# Altium footprint library Motorola Footprints.PcbLib: 408 footprints (part 19 of 26)
Each footprint in its own frame and in the unit in brackets; x right, y up, seen from the top. Pads: shape width x height; smd on the part's side, far side on the other; paste and mask are expansions set on the pad; w line width, h text height; cw(c..) or ccw(c..) is an arc to the next point about the centre after c.
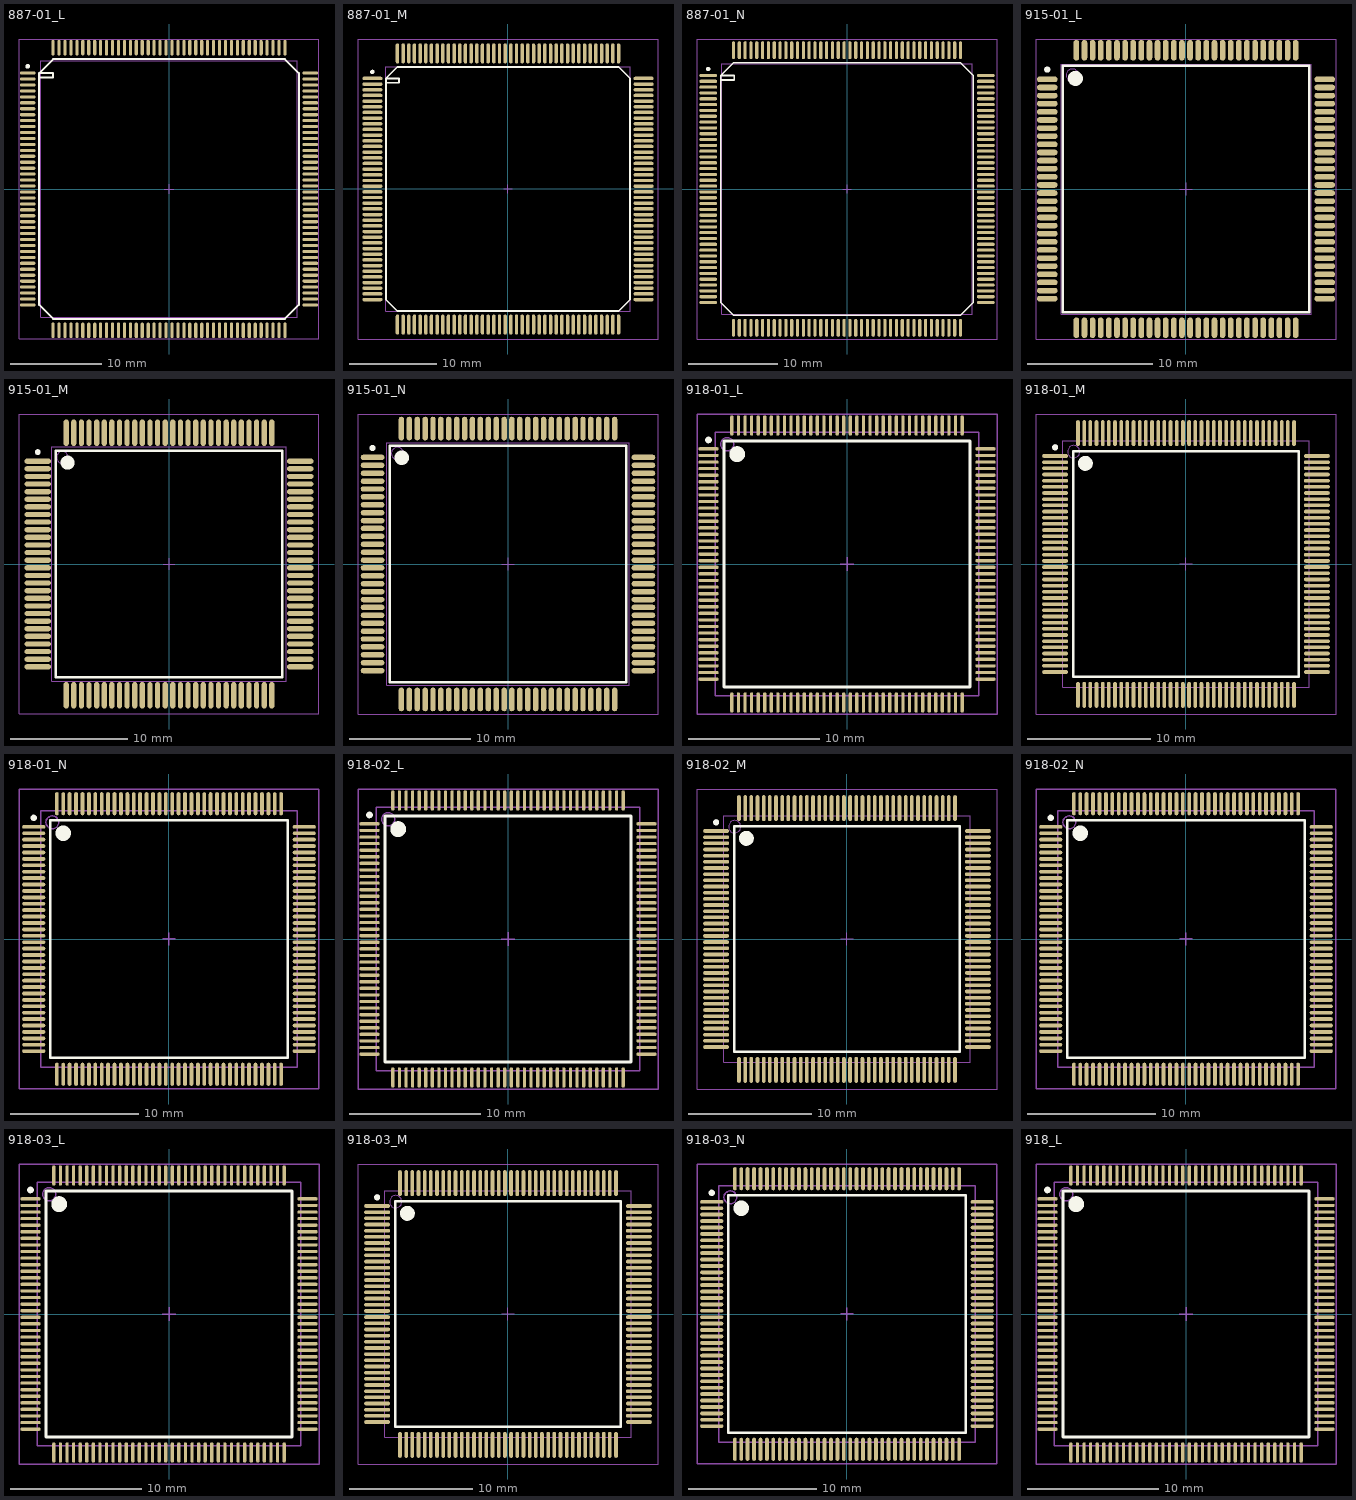
[diagram p18: the footprints below, top view; thin cyan lines are the x and y axes]

## 887-01_L [mm] "160-Pin Ceramic Quad Flat Pack with Molded Carrier Ring 0.65 mm Pitch, IPC High Density"
height 3.4
pads (160):
  oval 1.7x0.35 smd: 1(-15.45,12.675) 2(-15.45,12.025) 3(-15.45,11.375) 4(-15.45,10.725) 5(-15.45,10.075) 6(-15.45,9.425) 7(-15.45,8.775) 8(-15.45,8.125) 9(-15.45,7.475) 10(-15.45,6.825) 11(-15.45,6.175) 12(-15.45,5.525) 13(-15.45,4.875) 14(-15.45,4.225) 15(-15.45,3.575) 16(-15.45,2.925) 17(-15.45,2.275) 18(-15.45,1.625) 19(-15.45,0.975) 20(-15.45,0.325) 21(-15.45,-0.325) 22(-15.45,-0.975) 23(-15.45,-1.625) 24(-15.45,-2.275) 25(-15.45,-2.925) 26(-15.45,-3.575) 27(-15.45,-4.225) 28(-15.45,-4.875) 29(-15.45,-5.525) 30(-15.45,-6.175) 31(-15.45,-6.825) 32(-15.45,-7.475) 33(-15.45,-8.125) 34(-15.45,-8.775) 35(-15.45,-9.425) 36(-15.45,-10.075) 37(-15.45,-10.725) 38(-15.45,-11.375) 39(-15.45,-12.025) 40(-15.45,-12.675) 81(15.45,-12.675) 82(15.45,-12.025) 83(15.45,-11.375) 84(15.45,-10.725) 85(15.45,-10.075) 86(15.45,-9.425) 87(15.45,-8.775) 88(15.45,-8.125) 89(15.45,-7.475) 90(15.45,-6.825) 91(15.45,-6.175) 92(15.45,-5.525) 93(15.45,-4.875) 94(15.45,-4.225) 95(15.45,-3.575) 96(15.45,-2.925) 97(15.45,-2.275) 98(15.45,-1.625) 99(15.45,-0.975) 100(15.45,-0.325) 101(15.45,0.325) 102(15.45,0.975) 103(15.45,1.625) 104(15.45,2.275) 105(15.45,2.925) 106(15.45,3.575) 107(15.45,4.225) 108(15.45,4.875) 109(15.45,5.525) 110(15.45,6.175) 111(15.45,6.825) 112(15.45,7.475) 113(15.45,8.125) 114(15.45,8.775) 115(15.45,9.425) 116(15.45,10.075) 117(15.45,10.725) 118(15.45,11.375) 119(15.45,12.025) 120(15.45,12.675)
  oval 0.35x1.7 smd: 41(-12.675,-15.45) 42(-12.025,-15.45) 43(-11.375,-15.45) 44(-10.725,-15.45) 45(-10.075,-15.45) 46(-9.425,-15.45) 47(-8.775,-15.45) 48(-8.125,-15.45) 49(-7.475,-15.45) 50(-6.825,-15.45) 51(-6.175,-15.45) 52(-5.525,-15.45) 53(-4.875,-15.45) 54(-4.225,-15.45) 55(-3.575,-15.45) 56(-2.925,-15.45) 57(-2.275,-15.45) 58(-1.625,-15.45) 59(-0.975,-15.45) 60(-0.325,-15.45) 61(0.325,-15.45) 62(0.975,-15.45) 63(1.625,-15.45) 64(2.275,-15.45) 65(2.925,-15.45) 66(3.575,-15.45) 67(4.225,-15.45) 68(4.875,-15.45) 69(5.525,-15.45) 70(6.175,-15.45) 71(6.825,-15.45) 72(7.475,-15.45) 73(8.125,-15.45) 74(8.775,-15.45) 75(9.425,-15.45) 76(10.075,-15.45) 77(10.725,-15.45) 78(11.375,-15.45) 79(12.025,-15.45) 80(12.675,-15.45) 121(12.675,15.45) 122(12.025,15.45) 123(11.375,15.45) 124(10.725,15.45) 125(10.075,15.45) 126(9.425,15.45) 127(8.775,15.45) 128(8.125,15.45) 129(7.475,15.45) 130(6.825,15.45) 131(6.175,15.45) 132(5.525,15.45) 133(4.875,15.45) 134(4.225,15.45) 135(3.575,15.45) 136(2.925,15.45) 137(2.275,15.45) 138(1.625,15.45) 139(0.975,15.45) 140(0.325,15.45) 141(-0.325,15.45) 142(-0.975,15.45) 143(-1.625,15.45) 144(-2.275,15.45) 145(-2.925,15.45) 146(-3.575,15.45) 147(-4.225,15.45) 148(-4.875,15.45) 149(-5.525,15.45) 150(-6.175,15.45) 151(-6.825,15.45) 152(-7.475,15.45) 153(-8.125,15.45) 154(-8.775,15.45) 155(-9.425,15.45) 156(-10.075,15.45) 157(-10.725,15.45) 158(-11.375,15.45) 159(-12.025,15.45) 160(-12.675,15.45)
Top Overlay:
  circle w0.25: c-15.45,13.4 r0.125
  lines w0.2: -14.2,12.175 -12.7,12.175 -12.7,12.675 -14.2,12.675 ; -14.2,12.675 -14.2,-12.675 -12.675,-14.2 12.675,-14.2 14.2,-12.675 14.2,12.675 12.675,14.2 -12.675,14.2 -14.2,12.675
Mechanical 13:
  lines w0.1: -14,-14 -14,14 14,14 14,-14 -14,-14
Mechanical 15:
  lines w0.1: -0.5,0 0.5,0 ; 0,-0.5 0,0.5 ; -16.4,-16.4 -16.4,16.4 16.4,16.4 16.4,-16.4 -16.4,-16.4
3D body: height 3.4, standoff 0, extent -14,-14 14,14

## 887-01_M [mm] "160-Pin Ceramic Quad Flat Pack with Molded Carrier Ring 0.65 mm Pitch, IPC Low Density"
height 3.4
pads (160):
  oval 2.3x0.4 smd: 1(-15.55,12.675) 2(-15.55,12.025) 3(-15.55,11.375) 4(-15.55,10.725) 5(-15.55,10.075) 6(-15.55,9.425) 7(-15.55,8.775) 8(-15.55,8.125) 9(-15.55,7.475) 10(-15.55,6.825) 11(-15.55,6.175) 12(-15.55,5.525) 13(-15.55,4.875) 14(-15.55,4.225) 15(-15.55,3.575) 16(-15.55,2.925) 17(-15.55,2.275) 18(-15.55,1.625) 19(-15.55,0.975) 20(-15.55,0.325) 21(-15.55,-0.325) 22(-15.55,-0.975) 23(-15.55,-1.625) 24(-15.55,-2.275) 25(-15.55,-2.925) 26(-15.55,-3.575) 27(-15.55,-4.225) 28(-15.55,-4.875) 29(-15.55,-5.525) 30(-15.55,-6.175) 31(-15.55,-6.825) 32(-15.55,-7.475) 33(-15.55,-8.125) 34(-15.55,-8.775) 35(-15.55,-9.425) 36(-15.55,-10.075) 37(-15.55,-10.725) 38(-15.55,-11.375) 39(-15.55,-12.025) 40(-15.55,-12.675) 81(15.55,-12.675) 82(15.55,-12.025) 83(15.55,-11.375) 84(15.55,-10.725) 85(15.55,-10.075) 86(15.55,-9.425) 87(15.55,-8.775) 88(15.55,-8.125) 89(15.55,-7.475) 90(15.55,-6.825) 91(15.55,-6.175) 92(15.55,-5.525) 93(15.55,-4.875) 94(15.55,-4.225) 95(15.55,-3.575) 96(15.55,-2.925) 97(15.55,-2.275) 98(15.55,-1.625) 99(15.55,-0.975) 100(15.55,-0.325) 101(15.55,0.325) 102(15.55,0.975) 103(15.55,1.625) 104(15.55,2.275) 105(15.55,2.925) 106(15.55,3.575) 107(15.55,4.225) 108(15.55,4.875) 109(15.55,5.525) 110(15.55,6.175) 111(15.55,6.825) 112(15.55,7.475) 113(15.55,8.125) 114(15.55,8.775) 115(15.55,9.425) 116(15.55,10.075) 117(15.55,10.725) 118(15.55,11.375) 119(15.55,12.025) 120(15.55,12.675)
  oval 0.4x2.3 smd: 41(-12.675,-15.55) 42(-12.025,-15.55) 43(-11.375,-15.55) 44(-10.725,-15.55) 45(-10.075,-15.55) 46(-9.425,-15.55) 47(-8.775,-15.55) 48(-8.125,-15.55) 49(-7.475,-15.55) 50(-6.825,-15.55) 51(-6.175,-15.55) 52(-5.525,-15.55) 53(-4.875,-15.55) 54(-4.225,-15.55) 55(-3.575,-15.55) 56(-2.925,-15.55) 57(-2.275,-15.55) 58(-1.625,-15.55) 59(-0.975,-15.55) 60(-0.325,-15.55) 61(0.325,-15.55) 62(0.975,-15.55) 63(1.625,-15.55) 64(2.275,-15.55) 65(2.925,-15.55) 66(3.575,-15.55) 67(4.225,-15.55) 68(4.875,-15.55) 69(5.525,-15.55) 70(6.175,-15.55) 71(6.825,-15.55) 72(7.475,-15.55) 73(8.125,-15.55) 74(8.775,-15.55) 75(9.425,-15.55) 76(10.075,-15.55) 77(10.725,-15.55) 78(11.375,-15.55) 79(12.025,-15.55) 80(12.675,-15.55) 121(12.675,15.55) 122(12.025,15.55) 123(11.375,15.55) 124(10.725,15.55) 125(10.075,15.55) 126(9.425,15.55) 127(8.775,15.55) 128(8.125,15.55) 129(7.475,15.55) 130(6.825,15.55) 131(6.175,15.55) 132(5.525,15.55) 133(4.875,15.55) 134(4.225,15.55) 135(3.575,15.55) 136(2.925,15.55) 137(2.275,15.55) 138(1.625,15.55) 139(0.975,15.55) 140(0.325,15.55) 141(-0.325,15.55) 142(-0.975,15.55) 143(-1.625,15.55) 144(-2.275,15.55) 145(-2.925,15.55) 146(-3.575,15.55) 147(-4.225,15.55) 148(-4.875,15.55) 149(-5.525,15.55) 150(-6.175,15.55) 151(-6.825,15.55) 152(-7.475,15.55) 153(-8.125,15.55) 154(-8.775,15.55) 155(-9.425,15.55) 156(-10.075,15.55) 157(-10.725,15.55) 158(-11.375,15.55) 159(-12.025,15.55) 160(-12.675,15.55)
Top Overlay:
  circle w0.25: c-15.55,13.425 r0.125
  lines w0.2: -14,12.175 -12.5,12.175 -12.5,12.675 -14,12.675 ; -14,12.675 -12.675,14 12.675,14 14,12.675 14,-12.675 12.675,-14 -12.675,-14 -14,-12.675 -14,12.675
Mechanical 13:
  lines w0.1: -14,-14 14,-14 14,14 -14,14 -14,-14
Mechanical 15:
  lines w0.1: -0.5,0 0.5,0 ; 0,-0.5 0,0.5 ; -17.2,-17.2 17.2,-17.2 17.2,17.2 -17.2,17.2 -17.2,-17.2
3D body: height 3.4, standoff 0, extent -14,-14 14,14

## 887-01_N [mm] "160-Pin Ceramic Quad Flat Pack with Molded Carrier Ring 0.65 mm Pitch, IPC Medium Density"
height 3.4
pads (160):
  oval 2x0.35 smd: 1(-15.5,12.675) 2(-15.5,12.025) 3(-15.5,11.375) 4(-15.5,10.725) 5(-15.5,10.075) 6(-15.5,9.425) 7(-15.5,8.775) 8(-15.5,8.125) 9(-15.5,7.475) 10(-15.5,6.825) 11(-15.5,6.175) 12(-15.5,5.525) 13(-15.5,4.875) 14(-15.5,4.225) 15(-15.5,3.575) 16(-15.5,2.925) 17(-15.5,2.275) 18(-15.5,1.625) 19(-15.5,0.975) 20(-15.5,0.325) 21(-15.5,-0.325) 22(-15.5,-0.975) 23(-15.5,-1.625) 24(-15.5,-2.275) 25(-15.5,-2.925) 26(-15.5,-3.575) 27(-15.5,-4.225) 28(-15.5,-4.875) 29(-15.5,-5.525) 30(-15.5,-6.175) 31(-15.5,-6.825) 32(-15.5,-7.475) 33(-15.5,-8.125) 34(-15.5,-8.775) 35(-15.5,-9.425) 36(-15.5,-10.075) 37(-15.5,-10.725) 38(-15.5,-11.375) 39(-15.5,-12.025) 40(-15.5,-12.675) 81(15.5,-12.675) 82(15.5,-12.025) 83(15.5,-11.375) 84(15.5,-10.725) 85(15.5,-10.075) 86(15.5,-9.425) 87(15.5,-8.775) 88(15.5,-8.125) 89(15.5,-7.475) 90(15.5,-6.825) 91(15.5,-6.175) 92(15.5,-5.525) 93(15.5,-4.875) 94(15.5,-4.225) 95(15.5,-3.575) 96(15.5,-2.925) 97(15.5,-2.275) 98(15.5,-1.625) 99(15.5,-0.975) 100(15.5,-0.325) 101(15.5,0.325) 102(15.5,0.975) 103(15.5,1.625) 104(15.5,2.275) 105(15.5,2.925) 106(15.5,3.575) 107(15.5,4.225) 108(15.5,4.875) 109(15.5,5.525) 110(15.5,6.175) 111(15.5,6.825) 112(15.5,7.475) 113(15.5,8.125) 114(15.5,8.775) 115(15.5,9.425) 116(15.5,10.075) 117(15.5,10.725) 118(15.5,11.375) 119(15.5,12.025) 120(15.5,12.675)
  oval 0.35x2 smd: 41(-12.675,-15.5) 42(-12.025,-15.5) 43(-11.375,-15.5) 44(-10.725,-15.5) 45(-10.075,-15.5) 46(-9.425,-15.5) 47(-8.775,-15.5) 48(-8.125,-15.5) 49(-7.475,-15.5) 50(-6.825,-15.5) 51(-6.175,-15.5) 52(-5.525,-15.5) 53(-4.875,-15.5) 54(-4.225,-15.5) 55(-3.575,-15.5) 56(-2.925,-15.5) 57(-2.275,-15.5) 58(-1.625,-15.5) 59(-0.975,-15.5) 60(-0.325,-15.5) 61(0.325,-15.5) 62(0.975,-15.5) 63(1.625,-15.5) 64(2.275,-15.5) 65(2.925,-15.5) 66(3.575,-15.5) 67(4.225,-15.5) 68(4.875,-15.5) 69(5.525,-15.5) 70(6.175,-15.5) 71(6.825,-15.5) 72(7.475,-15.5) 73(8.125,-15.5) 74(8.775,-15.5) 75(9.425,-15.5) 76(10.075,-15.5) 77(10.725,-15.5) 78(11.375,-15.5) 79(12.025,-15.5) 80(12.675,-15.5) 121(12.675,15.5) 122(12.025,15.5) 123(11.375,15.5) 124(10.725,15.5) 125(10.075,15.5) 126(9.425,15.5) 127(8.775,15.5) 128(8.125,15.5) 129(7.475,15.5) 130(6.825,15.5) 131(6.175,15.5) 132(5.525,15.5) 133(4.875,15.5) 134(4.225,15.5) 135(3.575,15.5) 136(2.925,15.5) 137(2.275,15.5) 138(1.625,15.5) 139(0.975,15.5) 140(0.325,15.5) 141(-0.325,15.5) 142(-0.975,15.5) 143(-1.625,15.5) 144(-2.275,15.5) 145(-2.925,15.5) 146(-3.575,15.5) 147(-4.225,15.5) 148(-4.875,15.5) 149(-5.525,15.5) 150(-6.175,15.5) 151(-6.825,15.5) 152(-7.475,15.5) 153(-8.125,15.5) 154(-8.775,15.5) 155(-9.425,15.5) 156(-10.075,15.5) 157(-10.725,15.5) 158(-11.375,15.5) 159(-12.025,15.5) 160(-12.675,15.5)
Top Overlay:
  circle w0.25: c-15.5,13.4 r0.125
  lines w0.2: -14.1,12.175 -12.6,12.175 -12.6,12.675 -14.1,12.675 ; -14.1,12.675 -12.675,14.1 12.675,14.1 14.1,12.675 14.1,-12.675 12.675,-14.1 -12.675,-14.1 -14.1,-12.675 -14.1,12.675
Mechanical 13:
  lines w0.1: -14,-14 14,-14 14,14 -14,14 -14,-14
Mechanical 15:
  lines w0.1: -0.5,0 0.5,0 ; 0,-0.5 0,0.5 ; -16.75,-16.75 16.75,-16.75 16.75,16.75 -16.75,16.75 -16.75,-16.75
3D body: height 3.4, standoff 0, extent -14,-14 14,14

## 915-01_L [mm] "112-Pin Quad Flat Pack 0.65 mm Pitch, IPC High Density"
height 3.45
pads (112):
  oval 1.65x0.45 smd: 1(-11.1,8.775) 2(-11.1,8.125) 3(-11.1,7.475) 4(-11.1,6.825) 5(-11.1,6.175) 6(-11.1,5.525) 7(-11.1,4.875) 8(-11.1,4.225) 9(-11.1,3.575) 10(-11.1,2.925) 11(-11.1,2.275) 12(-11.1,1.625) 13(-11.1,0.975) 14(-11.1,0.325) 15(-11.1,-0.325) 16(-11.1,-0.975) 17(-11.1,-1.625) 18(-11.1,-2.275) 19(-11.1,-2.925) 20(-11.1,-3.575) 21(-11.1,-4.225) 22(-11.1,-4.875) 23(-11.1,-5.525) 24(-11.1,-6.175) 25(-11.1,-6.825) 26(-11.1,-7.475) 27(-11.1,-8.125) 28(-11.1,-8.775) 57(11.1,-8.775) 58(11.1,-8.125) 59(11.1,-7.475) 60(11.1,-6.825) 61(11.1,-6.175) 62(11.1,-5.525) 63(11.1,-4.875) 64(11.1,-4.225) 65(11.1,-3.575) 66(11.1,-2.925) 67(11.1,-2.275) 68(11.1,-1.625) 69(11.1,-0.975) 70(11.1,-0.325) 71(11.1,0.325) 72(11.1,0.975) 73(11.1,1.625) 74(11.1,2.275) 75(11.1,2.925) 76(11.1,3.575) 77(11.1,4.225) 78(11.1,4.875) 79(11.1,5.525) 80(11.1,6.175) 81(11.1,6.825) 82(11.1,7.475) 83(11.1,8.125) 84(11.1,8.775)
  oval 0.45x1.65 smd: 29(-8.775,-11.1) 30(-8.125,-11.1) 31(-7.475,-11.1) 32(-6.825,-11.1) 33(-6.175,-11.1) 34(-5.525,-11.1) 35(-4.875,-11.1) 36(-4.225,-11.1) 37(-3.575,-11.1) 38(-2.925,-11.1) 39(-2.275,-11.1) 40(-1.625,-11.1) 41(-0.975,-11.1) 42(-0.325,-11.1) 43(0.325,-11.1) 44(0.975,-11.1) 45(1.625,-11.1) 46(2.275,-11.1) 47(2.925,-11.1) 48(3.575,-11.1) 49(4.225,-11.1) 50(4.875,-11.1) 51(5.525,-11.1) 52(6.175,-11.1) 53(6.825,-11.1) 54(7.475,-11.1) 55(8.125,-11.1) 56(8.775,-11.1) 85(8.775,11.1) 86(8.125,11.1) 87(7.475,11.1) 88(6.825,11.1) 89(6.175,11.1) 90(5.525,11.1) 91(4.875,11.1) 92(4.225,11.1) 93(3.575,11.1) 94(2.925,11.1) 95(2.275,11.1) 96(1.625,11.1) 97(0.975,11.1) 98(0.325,11.1) 99(-0.325,11.1) 100(-0.975,11.1) 101(-1.625,11.1) 102(-2.275,11.1) 103(-2.925,11.1) 104(-3.575,11.1) 105(-4.225,11.1) 106(-4.875,11.1) 107(-5.525,11.1) 108(-6.175,11.1) 109(-6.825,11.1) 110(-7.475,11.1) 111(-8.125,11.1) 112(-8.775,11.1)
Top Overlay:
  circle w0.25: c-11.1,9.55 r0.125
  circle w0.6: c-8.85,8.85 r0.3
  lines w0.2: -9.85,-9.85 -9.85,9.85 9.85,9.85 9.85,-9.85 -9.85,-9.85
Mechanical 13:
  circle w0.1: c-9.1,9.1 r0.5
  lines w0.1: -10,-10 -10,10 10,10 10,-10 -10,-10
Mechanical 15:
  lines w0.1: -0.5,0 0.5,0 ; 0,-0.5 0,0.5 ; -12,-12 -12,12 12,12 12,-12 -12,-12
3D body: height 3.45, standoff 0, extent -10,-10 10,10

## 915-01_M [mm] "112-Pin Quad Flat Pack 0.65 mm Pitch, IPC Low Density"
height 3.45
pads (112):
  oval 2.25x0.45 smd: 1(-11.2,8.775) 2(-11.2,8.125) 3(-11.2,7.475) 4(-11.2,6.825) 5(-11.2,6.175) 6(-11.2,5.525) 7(-11.2,4.875) 8(-11.2,4.225) 9(-11.2,3.575) 10(-11.2,2.925) 11(-11.2,2.275) 12(-11.2,1.625) 13(-11.2,0.975) 14(-11.2,0.325) 15(-11.2,-0.325) 16(-11.2,-0.975) 17(-11.2,-1.625) 18(-11.2,-2.275) 19(-11.2,-2.925) 20(-11.2,-3.575) 21(-11.2,-4.225) 22(-11.2,-4.875) 23(-11.2,-5.525) 24(-11.2,-6.175) 25(-11.2,-6.825) 26(-11.2,-7.475) 27(-11.2,-8.125) 28(-11.2,-8.775) 57(11.2,-8.775) 58(11.2,-8.125) 59(11.2,-7.475) 60(11.2,-6.825) 61(11.2,-6.175) 62(11.2,-5.525) 63(11.2,-4.875) 64(11.2,-4.225) 65(11.2,-3.575) 66(11.2,-2.925) 67(11.2,-2.275) 68(11.2,-1.625) 69(11.2,-0.975) 70(11.2,-0.325) 71(11.2,0.325) 72(11.2,0.975) 73(11.2,1.625) 74(11.2,2.275) 75(11.2,2.925) 76(11.2,3.575) 77(11.2,4.225) 78(11.2,4.875) 79(11.2,5.525) 80(11.2,6.175) 81(11.2,6.825) 82(11.2,7.475) 83(11.2,8.125) 84(11.2,8.775)
  oval 0.45x2.25 smd: 29(-8.775,-11.2) 30(-8.125,-11.2) 31(-7.475,-11.2) 32(-6.825,-11.2) 33(-6.175,-11.2) 34(-5.525,-11.2) 35(-4.875,-11.2) 36(-4.225,-11.2) 37(-3.575,-11.2) 38(-2.925,-11.2) 39(-2.275,-11.2) 40(-1.625,-11.2) 41(-0.975,-11.2) 42(-0.325,-11.2) 43(0.325,-11.2) 44(0.975,-11.2) 45(1.625,-11.2) 46(2.275,-11.2) 47(2.925,-11.2) 48(3.575,-11.2) 49(4.225,-11.2) 50(4.875,-11.2) 51(5.525,-11.2) 52(6.175,-11.2) 53(6.825,-11.2) 54(7.475,-11.2) 55(8.125,-11.2) 56(8.775,-11.2) 85(8.775,11.2) 86(8.125,11.2) 87(7.475,11.2) 88(6.825,11.2) 89(6.175,11.2) 90(5.525,11.2) 91(4.875,11.2) 92(4.225,11.2) 93(3.575,11.2) 94(2.925,11.2) 95(2.275,11.2) 96(1.625,11.2) 97(0.975,11.2) 98(0.325,11.2) 99(-0.325,11.2) 100(-0.975,11.2) 101(-1.625,11.2) 102(-2.275,11.2) 103(-2.925,11.2) 104(-3.575,11.2) 105(-4.225,11.2) 106(-4.875,11.2) 107(-5.525,11.2) 108(-6.175,11.2) 109(-6.825,11.2) 110(-7.475,11.2) 111(-8.125,11.2) 112(-8.775,11.2)
Top Overlay:
  circle w0.25: c-11.2,9.55 r0.125
  circle w0.6: c-8.65,8.65 r0.3
  lines w0.2: -9.65,-9.65 -9.65,9.65 9.65,9.65 9.65,-9.65 -9.65,-9.65
Mechanical 13:
  circle w0.1: c-9.1,9.1 r0.5
  lines w0.1: -10,-10 -10,10 10,10 10,-10 -10,-10
Mechanical 15:
  lines w0.1: -0.5,0 0.5,0 ; 0,-0.5 0,0.5 ; -12.8,-12.8 -12.8,12.8 12.8,12.8 12.8,-12.8 -12.8,-12.8
3D body: height 3.45, standoff 0, extent -10,-10 10,10

## 915-01_N [mm] "112-Pin Quad Flat Pack 0.65 mm Pitch, IPC Medium Density"
height 3.45
pads (112):
  oval 1.95x0.45 smd: 1(-11.15,8.775) 2(-11.15,8.125) 3(-11.15,7.475) 4(-11.15,6.825) 5(-11.15,6.175) 6(-11.15,5.525) 7(-11.15,4.875) 8(-11.15,4.225) 9(-11.15,3.575) 10(-11.15,2.925) 11(-11.15,2.275) 12(-11.15,1.625) 13(-11.15,0.975) 14(-11.15,0.325) 15(-11.15,-0.325) 16(-11.15,-0.975) 17(-11.15,-1.625) 18(-11.15,-2.275) 19(-11.15,-2.925) 20(-11.15,-3.575) 21(-11.15,-4.225) 22(-11.15,-4.875) 23(-11.15,-5.525) 24(-11.15,-6.175) 25(-11.15,-6.825) 26(-11.15,-7.475) 27(-11.15,-8.125) 28(-11.15,-8.775) 57(11.15,-8.775) 58(11.15,-8.125) 59(11.15,-7.475) 60(11.15,-6.825) 61(11.15,-6.175) 62(11.15,-5.525) 63(11.15,-4.875) 64(11.15,-4.225) 65(11.15,-3.575) 66(11.15,-2.925) 67(11.15,-2.275) 68(11.15,-1.625) 69(11.15,-0.975) 70(11.15,-0.325) 71(11.15,0.325) 72(11.15,0.975) 73(11.15,1.625) 74(11.15,2.275) 75(11.15,2.925) 76(11.15,3.575) 77(11.15,4.225) 78(11.15,4.875) 79(11.15,5.525) 80(11.15,6.175) 81(11.15,6.825) 82(11.15,7.475) 83(11.15,8.125) 84(11.15,8.775)
  oval 0.45x1.95 smd: 29(-8.775,-11.15) 30(-8.125,-11.15) 31(-7.475,-11.15) 32(-6.825,-11.15) 33(-6.175,-11.15) 34(-5.525,-11.15) 35(-4.875,-11.15) 36(-4.225,-11.15) 37(-3.575,-11.15) 38(-2.925,-11.15) 39(-2.275,-11.15) 40(-1.625,-11.15) 41(-0.975,-11.15) 42(-0.325,-11.15) 43(0.325,-11.15) 44(0.975,-11.15) 45(1.625,-11.15) 46(2.275,-11.15) 47(2.925,-11.15) 48(3.575,-11.15) 49(4.225,-11.15) 50(4.875,-11.15) 51(5.525,-11.15) 52(6.175,-11.15) 53(6.825,-11.15) 54(7.475,-11.15) 55(8.125,-11.15) 56(8.775,-11.15) 85(8.775,11.15) 86(8.125,11.15) 87(7.475,11.15) 88(6.825,11.15) 89(6.175,11.15) 90(5.525,11.15) 91(4.875,11.15) 92(4.225,11.15) 93(3.575,11.15) 94(2.925,11.15) 95(2.275,11.15) 96(1.625,11.15) 97(0.975,11.15) 98(0.325,11.15) 99(-0.325,11.15) 100(-0.975,11.15) 101(-1.625,11.15) 102(-2.275,11.15) 103(-2.925,11.15) 104(-3.575,11.15) 105(-4.225,11.15) 106(-4.875,11.15) 107(-5.525,11.15) 108(-6.175,11.15) 109(-6.825,11.15) 110(-7.475,11.15) 111(-8.125,11.15) 112(-8.775,11.15)
Top Overlay:
  circle w0.6: c-8.75,8.75 r0.3
  circle w0.25: c-11.15,9.55 r0.125
  lines w0.2: -9.75,-9.75 9.75,-9.75 9.75,9.75 -9.75,9.75 -9.75,-9.75
Mechanical 13:
  circle w0.1: c-9.1,9.1 r0.5
  lines w0.1: -10,-10 10,-10 10,10 -10,10 -10,-10
Mechanical 15:
  lines w0.1: -0.5,0 0.5,0 ; 0,-0.5 0,0.5 ; -12.35,-12.35 12.35,-12.35 12.35,12.35 -12.35,12.35 -12.35,-12.35
3D body: height 3.45, standoff 0, extent -10,-10 10,10

## 918-01_L [mm] "144-Pin Thin Quad Flat Pack 0.5 mm Pitch, IPC High Density"
height 1.6
pads (144):
  oval 1.55x0.25 smd: 1(-10.525,8.75) 2(-10.525,8.25) 3(-10.525,7.75) 4(-10.525,7.25) 5(-10.525,6.75) 6(-10.525,6.25) 7(-10.525,5.75) 8(-10.525,5.25) 9(-10.525,4.75) 10(-10.525,4.25) 11(-10.525,3.75) 12(-10.525,3.25) 13(-10.525,2.75) 14(-10.525,2.25) 15(-10.525,1.75) 16(-10.525,1.25) 17(-10.525,0.75) 18(-10.525,0.25) 19(-10.525,-0.25) 20(-10.525,-0.75) 21(-10.525,-1.25) 22(-10.525,-1.75) 23(-10.525,-2.25) 24(-10.525,-2.75) 25(-10.525,-3.25) 26(-10.525,-3.75) 27(-10.525,-4.25) 28(-10.525,-4.75) 29(-10.525,-5.25) 30(-10.525,-5.75) 31(-10.525,-6.25) 32(-10.525,-6.75) 33(-10.525,-7.25) 34(-10.525,-7.75) 35(-10.525,-8.25) 36(-10.525,-8.75) 73(10.525,-8.75) 74(10.525,-8.25) 75(10.525,-7.75) 76(10.525,-7.25) 77(10.525,-6.75) 78(10.525,-6.25) 79(10.525,-5.75) 80(10.525,-5.25) 81(10.525,-4.75) 82(10.525,-4.25) 83(10.525,-3.75) 84(10.525,-3.25) 85(10.525,-2.75) 86(10.525,-2.25) 87(10.525,-1.75) 88(10.525,-1.25) 89(10.525,-0.75) 90(10.525,-0.25) 91(10.525,0.25) 92(10.525,0.75) 93(10.525,1.25) 94(10.525,1.75) 95(10.525,2.25) 96(10.525,2.75) 97(10.525,3.25) 98(10.525,3.75) 99(10.525,4.25) 100(10.525,4.75) 101(10.525,5.25) 102(10.525,5.75) 103(10.525,6.25) 104(10.525,6.75) 105(10.525,7.25) 106(10.525,7.75) 107(10.525,8.25) 108(10.525,8.75)
  oval 0.25x1.55 smd: 37(-8.75,-10.525) 38(-8.25,-10.525) 39(-7.75,-10.525) 40(-7.25,-10.525) 41(-6.75,-10.525) 42(-6.25,-10.525) 43(-5.75,-10.525) 44(-5.25,-10.525) 45(-4.75,-10.525) 46(-4.25,-10.525) 47(-3.75,-10.525) 48(-3.25,-10.525) 49(-2.75,-10.525) 50(-2.25,-10.525) 51(-1.75,-10.525) 52(-1.25,-10.525) 53(-0.75,-10.525) 54(-0.25,-10.525) 55(0.25,-10.525) 56(0.75,-10.525) 57(1.25,-10.525) 58(1.75,-10.525) 59(2.25,-10.525) 60(2.75,-10.525) 61(3.25,-10.525) 62(3.75,-10.525) 63(4.25,-10.525) 64(4.75,-10.525) 65(5.25,-10.525) 66(5.75,-10.525) 67(6.25,-10.525) 68(6.75,-10.525) 69(7.25,-10.525) 70(7.75,-10.525) 71(8.25,-10.525) 72(8.75,-10.525) 109(8.75,10.525) 110(8.25,10.525) 111(7.75,10.525) 112(7.25,10.525) 113(6.75,10.525) 114(6.25,10.525) 115(5.75,10.525) 116(5.25,10.525) 117(4.75,10.525) 118(4.25,10.525) 119(3.75,10.525) 120(3.25,10.525) 121(2.75,10.525) 122(2.25,10.525) 123(1.75,10.525) 124(1.25,10.525) 125(0.75,10.525) 126(0.25,10.525) 127(-0.25,10.525) 128(-0.75,10.525) 129(-1.25,10.525) 130(-1.75,10.525) 131(-2.25,10.525) 132(-2.75,10.525) 133(-3.25,10.525) 134(-3.75,10.525) 135(-4.25,10.525) 136(-4.75,10.525) 137(-5.25,10.525) 138(-5.75,10.525) 139(-6.25,10.525) 140(-6.75,10.525) 141(-7.25,10.525) 142(-7.75,10.525) 143(-8.25,10.525) 144(-8.75,10.525)
Top Overlay:
  circle w0.6: c-8.35,8.35 r0.3
  circle w0.25: c-10.525,9.425 r0.125
  lines w0.2: -9.35,-9.35 9.35,-9.35 9.35,9.35 -9.35,9.35 -9.35,-9.35
Mechanical 13:
  circle w0.1: c-9.1,9.1 r0.5
  lines w0.1: -10,-10 10,-10 10,10 -10,10 -10,-10
Mechanical 15:
  lines w0.1: -0.5,0 0.5,0 ; 0,-0.5 0,0.5 ; -11.4,-11.4 11.4,-11.4 11.4,11.4 -11.4,11.4 -11.4,-11.4
3D body: height 1.6, standoff 0, extent -10,-10 10,10

## 918-01_M [mm] "144-Pin Thin Quad Flat Pack 0.5 mm Pitch, IPC Low Density"
height 1.6
pads (144):
  oval 2.1x0.3 smd: 1(-10.6,8.75) 2(-10.6,8.25) 3(-10.6,7.75) 4(-10.6,7.25) 5(-10.6,6.75) 6(-10.6,6.25) 7(-10.6,5.75) 8(-10.6,5.25) 9(-10.6,4.75) 10(-10.6,4.25) 11(-10.6,3.75) 12(-10.6,3.25) 13(-10.6,2.75) 14(-10.6,2.25) 15(-10.6,1.75) 16(-10.6,1.25) 17(-10.6,0.75) 18(-10.6,0.25) 19(-10.6,-0.25) 20(-10.6,-0.75) 21(-10.6,-1.25) 22(-10.6,-1.75) 23(-10.6,-2.25) 24(-10.6,-2.75) 25(-10.6,-3.25) 26(-10.6,-3.75) 27(-10.6,-4.25) 28(-10.6,-4.75) 29(-10.6,-5.25) 30(-10.6,-5.75) 31(-10.6,-6.25) 32(-10.6,-6.75) 33(-10.6,-7.25) 34(-10.6,-7.75) 35(-10.6,-8.25) 36(-10.6,-8.75) 73(10.6,-8.75) 74(10.6,-8.25) 75(10.6,-7.75) 76(10.6,-7.25) 77(10.6,-6.75) 78(10.6,-6.25) 79(10.6,-5.75) 80(10.6,-5.25) 81(10.6,-4.75) 82(10.6,-4.25) 83(10.6,-3.75) 84(10.6,-3.25) 85(10.6,-2.75) 86(10.6,-2.25) 87(10.6,-1.75) 88(10.6,-1.25) 89(10.6,-0.75) 90(10.6,-0.25) 91(10.6,0.25) 92(10.6,0.75) 93(10.6,1.25) 94(10.6,1.75) 95(10.6,2.25) 96(10.6,2.75) 97(10.6,3.25) 98(10.6,3.75) 99(10.6,4.25) 100(10.6,4.75) 101(10.6,5.25) 102(10.6,5.75) 103(10.6,6.25) 104(10.6,6.75) 105(10.6,7.25) 106(10.6,7.75) 107(10.6,8.25) 108(10.6,8.75)
  oval 0.3x2.1 smd: 37(-8.75,-10.6) 38(-8.25,-10.6) 39(-7.75,-10.6) 40(-7.25,-10.6) 41(-6.75,-10.6) 42(-6.25,-10.6) 43(-5.75,-10.6) 44(-5.25,-10.6) 45(-4.75,-10.6) 46(-4.25,-10.6) 47(-3.75,-10.6) 48(-3.25,-10.6) 49(-2.75,-10.6) 50(-2.25,-10.6) 51(-1.75,-10.6) 52(-1.25,-10.6) 53(-0.75,-10.6) 54(-0.25,-10.6) 55(0.25,-10.6) 56(0.75,-10.6) 57(1.25,-10.6) 58(1.75,-10.6) 59(2.25,-10.6) 60(2.75,-10.6) 61(3.25,-10.6) 62(3.75,-10.6) 63(4.25,-10.6) 64(4.75,-10.6) 65(5.25,-10.6) 66(5.75,-10.6) 67(6.25,-10.6) 68(6.75,-10.6) 69(7.25,-10.6) 70(7.75,-10.6) 71(8.25,-10.6) 72(8.75,-10.6) 109(8.75,10.6) 110(8.25,10.6) 111(7.75,10.6) 112(7.25,10.6) 113(6.75,10.6) 114(6.25,10.6) 115(5.75,10.6) 116(5.25,10.6) 117(4.75,10.6) 118(4.25,10.6) 119(3.75,10.6) 120(3.25,10.6) 121(2.75,10.6) 122(2.25,10.6) 123(1.75,10.6) 124(1.25,10.6) 125(0.75,10.6) 126(0.25,10.6) 127(-0.25,10.6) 128(-0.75,10.6) 129(-1.25,10.6) 130(-1.75,10.6) 131(-2.25,10.6) 132(-2.75,10.6) 133(-3.25,10.6) 134(-3.75,10.6) 135(-4.25,10.6) 136(-4.75,10.6) 137(-5.25,10.6) 138(-5.75,10.6) 139(-6.25,10.6) 140(-6.75,10.6) 141(-7.25,10.6) 142(-7.75,10.6) 143(-8.25,10.6) 144(-8.75,10.6)
Top Overlay:
  circle w0.6: c-8.15,8.15 r0.3
  circle w0.25: c-10.6,9.45 r0.125
  lines w0.2: -9.15,-9.15 9.15,-9.15 9.15,9.15 -9.15,9.15 -9.15,-9.15
Mechanical 13:
  circle w0.1: c-9.1,9.1 r0.5
  lines w0.1: -10,-10 10,-10 10,10 -10,10 -10,-10
Mechanical 15:
  lines w0.1: -0.5,0 0.5,0 ; 0,-0.5 0,0.5 ; -12.15,-12.15 12.15,-12.15 12.15,12.15 -12.15,12.15 -12.15,-12.15
3D body: height 1.6, standoff 0, extent -10,-10 10,10

## 918-01_N [mm] "144-Pin Thin Quad Flat Pack 0.5 mm Pitch, IPC Medium Density"
height 1.6
pads (144):
  oval 1.8x0.3 smd: 1(-10.55,8.75) 2(-10.55,8.25) 3(-10.55,7.75) 4(-10.55,7.25) 5(-10.55,6.75) 6(-10.55,6.25) 7(-10.55,5.75) 8(-10.55,5.25) 9(-10.55,4.75) 10(-10.55,4.25) 11(-10.55,3.75) 12(-10.55,3.25) 13(-10.55,2.75) 14(-10.55,2.25) 15(-10.55,1.75) 16(-10.55,1.25) 17(-10.55,0.75) 18(-10.55,0.25) 19(-10.55,-0.25) 20(-10.55,-0.75) 21(-10.55,-1.25) 22(-10.55,-1.75) 23(-10.55,-2.25) 24(-10.55,-2.75) 25(-10.55,-3.25) 26(-10.55,-3.75) 27(-10.55,-4.25) 28(-10.55,-4.75) 29(-10.55,-5.25) 30(-10.55,-5.75) 31(-10.55,-6.25) 32(-10.55,-6.75) 33(-10.55,-7.25) 34(-10.55,-7.75) 35(-10.55,-8.25) 36(-10.55,-8.75) 73(10.55,-8.75) 74(10.55,-8.25) 75(10.55,-7.75) 76(10.55,-7.25) 77(10.55,-6.75) 78(10.55,-6.25) 79(10.55,-5.75) 80(10.55,-5.25) 81(10.55,-4.75) 82(10.55,-4.25) 83(10.55,-3.75) 84(10.55,-3.25) 85(10.55,-2.75) 86(10.55,-2.25) 87(10.55,-1.75) 88(10.55,-1.25) 89(10.55,-0.75) 90(10.55,-0.25) 91(10.55,0.25) 92(10.55,0.75) 93(10.55,1.25) 94(10.55,1.75) 95(10.55,2.25) 96(10.55,2.75) 97(10.55,3.25) 98(10.55,3.75) 99(10.55,4.25) 100(10.55,4.75) 101(10.55,5.25) 102(10.55,5.75) 103(10.55,6.25) 104(10.55,6.75) 105(10.55,7.25) 106(10.55,7.75) 107(10.55,8.25) 108(10.55,8.75)
  oval 0.3x1.8 smd: 37(-8.75,-10.55) 38(-8.25,-10.55) 39(-7.75,-10.55) 40(-7.25,-10.55) 41(-6.75,-10.55) 42(-6.25,-10.55) 43(-5.75,-10.55) 44(-5.25,-10.55) 45(-4.75,-10.55) 46(-4.25,-10.55) 47(-3.75,-10.55) 48(-3.25,-10.55) 49(-2.75,-10.55) 50(-2.25,-10.55) 51(-1.75,-10.55) 52(-1.25,-10.55) 53(-0.75,-10.55) 54(-0.25,-10.55) 55(0.25,-10.55) 56(0.75,-10.55) 57(1.25,-10.55) 58(1.75,-10.55) 59(2.25,-10.55) 60(2.75,-10.55) 61(3.25,-10.55) 62(3.75,-10.55) 63(4.25,-10.55) 64(4.75,-10.55) 65(5.25,-10.55) 66(5.75,-10.55) 67(6.25,-10.55) 68(6.75,-10.55) 69(7.25,-10.55) 70(7.75,-10.55) 71(8.25,-10.55) 72(8.75,-10.55) 109(8.75,10.55) 110(8.25,10.55) 111(7.75,10.55) 112(7.25,10.55) 113(6.75,10.55) 114(6.25,10.55) 115(5.75,10.55) 116(5.25,10.55) 117(4.75,10.55) 118(4.25,10.55) 119(3.75,10.55) 120(3.25,10.55) 121(2.75,10.55) 122(2.25,10.55) 123(1.75,10.55) 124(1.25,10.55) 125(0.75,10.55) 126(0.25,10.55) 127(-0.25,10.55) 128(-0.75,10.55) 129(-1.25,10.55) 130(-1.75,10.55) 131(-2.25,10.55) 132(-2.75,10.55) 133(-3.25,10.55) 134(-3.75,10.55) 135(-4.25,10.55) 136(-4.75,10.55) 137(-5.25,10.55) 138(-5.75,10.55) 139(-6.25,10.55) 140(-6.75,10.55) 141(-7.25,10.55) 142(-7.75,10.55) 143(-8.25,10.55) 144(-8.75,10.55)
Top Overlay:
  circle w0.25: c-10.55,9.45 r0.125
  circle w0.6: c-8.25,8.25 r0.3
  lines w0.2: -9.25,-9.25 -9.25,9.25 9.25,9.25 9.25,-9.25 -9.25,-9.25
Mechanical 13:
  circle w0.1: c-9.1,9.1 r0.5
  lines w0.1: -10,-10 -10,10 10,10 10,-10 -10,-10
Mechanical 15:
  lines w0.1: -0.5,0 0.5,0 ; 0,-0.5 0,0.5 ; -11.7,-11.7 -11.7,11.7 11.7,11.7 11.7,-11.7 -11.7,-11.7
3D body: height 1.6, standoff 0, extent -10,-10 10,10

## 918-02_L [mm] "144-Pin Thin Quad Flat Pack 0.5 mm Pitch, IPC High Density"
height 1.6
pads (144):
  oval 1.55x0.25 smd: 1(-10.525,8.75) 2(-10.525,8.25) 3(-10.525,7.75) 4(-10.525,7.25) 5(-10.525,6.75) 6(-10.525,6.25) 7(-10.525,5.75) 8(-10.525,5.25) 9(-10.525,4.75) 10(-10.525,4.25) 11(-10.525,3.75) 12(-10.525,3.25) 13(-10.525,2.75) 14(-10.525,2.25) 15(-10.525,1.75) 16(-10.525,1.25) 17(-10.525,0.75) 18(-10.525,0.25) 19(-10.525,-0.25) 20(-10.525,-0.75) 21(-10.525,-1.25) 22(-10.525,-1.75) 23(-10.525,-2.25) 24(-10.525,-2.75) 25(-10.525,-3.25) 26(-10.525,-3.75) 27(-10.525,-4.25) 28(-10.525,-4.75) 29(-10.525,-5.25) 30(-10.525,-5.75) 31(-10.525,-6.25) 32(-10.525,-6.75) 33(-10.525,-7.25) 34(-10.525,-7.75) 35(-10.525,-8.25) 36(-10.525,-8.75) 73(10.525,-8.75) 74(10.525,-8.25) 75(10.525,-7.75) 76(10.525,-7.25) 77(10.525,-6.75) 78(10.525,-6.25) 79(10.525,-5.75) 80(10.525,-5.25) 81(10.525,-4.75) 82(10.525,-4.25) 83(10.525,-3.75) 84(10.525,-3.25) 85(10.525,-2.75) 86(10.525,-2.25) 87(10.525,-1.75) 88(10.525,-1.25) 89(10.525,-0.75) 90(10.525,-0.25) 91(10.525,0.25) 92(10.525,0.75) 93(10.525,1.25) 94(10.525,1.75) 95(10.525,2.25) 96(10.525,2.75) 97(10.525,3.25) 98(10.525,3.75) 99(10.525,4.25) 100(10.525,4.75) 101(10.525,5.25) 102(10.525,5.75) 103(10.525,6.25) 104(10.525,6.75) 105(10.525,7.25) 106(10.525,7.75) 107(10.525,8.25) 108(10.525,8.75)
  oval 0.25x1.55 smd: 37(-8.75,-10.525) 38(-8.25,-10.525) 39(-7.75,-10.525) 40(-7.25,-10.525) 41(-6.75,-10.525) 42(-6.25,-10.525) 43(-5.75,-10.525) 44(-5.25,-10.525) 45(-4.75,-10.525) 46(-4.25,-10.525) 47(-3.75,-10.525) 48(-3.25,-10.525) 49(-2.75,-10.525) 50(-2.25,-10.525) 51(-1.75,-10.525) 52(-1.25,-10.525) 53(-0.75,-10.525) 54(-0.25,-10.525) 55(0.25,-10.525) 56(0.75,-10.525) 57(1.25,-10.525) 58(1.75,-10.525) 59(2.25,-10.525) 60(2.75,-10.525) 61(3.25,-10.525) 62(3.75,-10.525) 63(4.25,-10.525) 64(4.75,-10.525) 65(5.25,-10.525) 66(5.75,-10.525) 67(6.25,-10.525) 68(6.75,-10.525) 69(7.25,-10.525) 70(7.75,-10.525) 71(8.25,-10.525) 72(8.75,-10.525) 109(8.75,10.525) 110(8.25,10.525) 111(7.75,10.525) 112(7.25,10.525) 113(6.75,10.525) 114(6.25,10.525) 115(5.75,10.525) 116(5.25,10.525) 117(4.75,10.525) 118(4.25,10.525) 119(3.75,10.525) 120(3.25,10.525) 121(2.75,10.525) 122(2.25,10.525) 123(1.75,10.525) 124(1.25,10.525) 125(0.75,10.525) 126(0.25,10.525) 127(-0.25,10.525) 128(-0.75,10.525) 129(-1.25,10.525) 130(-1.75,10.525) 131(-2.25,10.525) 132(-2.75,10.525) 133(-3.25,10.525) 134(-3.75,10.525) 135(-4.25,10.525) 136(-4.75,10.525) 137(-5.25,10.525) 138(-5.75,10.525) 139(-6.25,10.525) 140(-6.75,10.525) 141(-7.25,10.525) 142(-7.75,10.525) 143(-8.25,10.525) 144(-8.75,10.525)
Top Overlay:
  circle w0.6: c-8.35,8.35 r0.3
  circle w0.25: c-10.525,9.425 r0.125
  lines w0.2: -9.35,-9.35 9.35,-9.35 9.35,9.35 -9.35,9.35 -9.35,-9.35
Mechanical 13:
  circle w0.1: c-9.1,9.1 r0.5
  lines w0.1: -10,-10 10,-10 10,10 -10,10 -10,-10
Mechanical 15:
  lines w0.1: -0.5,0 0.5,0 ; 0,-0.5 0,0.5 ; -11.4,-11.4 11.4,-11.4 11.4,11.4 -11.4,11.4 -11.4,-11.4
3D body: height 1.6, standoff 0, extent -10,-10 10,10

## 918-02_M [mm] "144-Pin Thin Quad Flat Pack 0.5 mm Pitch, IPC Low Density"
height 1.6
pads (144):
  oval 2.1x0.3 smd: 1(-10.6,8.75) 2(-10.6,8.25) 3(-10.6,7.75) 4(-10.6,7.25) 5(-10.6,6.75) 6(-10.6,6.25) 7(-10.6,5.75) 8(-10.6,5.25) 9(-10.6,4.75) 10(-10.6,4.25) 11(-10.6,3.75) 12(-10.6,3.25) 13(-10.6,2.75) 14(-10.6,2.25) 15(-10.6,1.75) 16(-10.6,1.25) 17(-10.6,0.75) 18(-10.6,0.25) 19(-10.6,-0.25) 20(-10.6,-0.75) 21(-10.6,-1.25) 22(-10.6,-1.75) 23(-10.6,-2.25) 24(-10.6,-2.75) 25(-10.6,-3.25) 26(-10.6,-3.75) 27(-10.6,-4.25) 28(-10.6,-4.75) 29(-10.6,-5.25) 30(-10.6,-5.75) 31(-10.6,-6.25) 32(-10.6,-6.75) 33(-10.6,-7.25) 34(-10.6,-7.75) 35(-10.6,-8.25) 36(-10.6,-8.75) 73(10.6,-8.75) 74(10.6,-8.25) 75(10.6,-7.75) 76(10.6,-7.25) 77(10.6,-6.75) 78(10.6,-6.25) 79(10.6,-5.75) 80(10.6,-5.25) 81(10.6,-4.75) 82(10.6,-4.25) 83(10.6,-3.75) 84(10.6,-3.25) 85(10.6,-2.75) 86(10.6,-2.25) 87(10.6,-1.75) 88(10.6,-1.25) 89(10.6,-0.75) 90(10.6,-0.25) 91(10.6,0.25) 92(10.6,0.75) 93(10.6,1.25) 94(10.6,1.75) 95(10.6,2.25) 96(10.6,2.75) 97(10.6,3.25) 98(10.6,3.75) 99(10.6,4.25) 100(10.6,4.75) 101(10.6,5.25) 102(10.6,5.75) 103(10.6,6.25) 104(10.6,6.75) 105(10.6,7.25) 106(10.6,7.75) 107(10.6,8.25) 108(10.6,8.75)
  oval 0.3x2.1 smd: 37(-8.75,-10.6) 38(-8.25,-10.6) 39(-7.75,-10.6) 40(-7.25,-10.6) 41(-6.75,-10.6) 42(-6.25,-10.6) 43(-5.75,-10.6) 44(-5.25,-10.6) 45(-4.75,-10.6) 46(-4.25,-10.6) 47(-3.75,-10.6) 48(-3.25,-10.6) 49(-2.75,-10.6) 50(-2.25,-10.6) 51(-1.75,-10.6) 52(-1.25,-10.6) 53(-0.75,-10.6) 54(-0.25,-10.6) 55(0.25,-10.6) 56(0.75,-10.6) 57(1.25,-10.6) 58(1.75,-10.6) 59(2.25,-10.6) 60(2.75,-10.6) 61(3.25,-10.6) 62(3.75,-10.6) 63(4.25,-10.6) 64(4.75,-10.6) 65(5.25,-10.6) 66(5.75,-10.6) 67(6.25,-10.6) 68(6.75,-10.6) 69(7.25,-10.6) 70(7.75,-10.6) 71(8.25,-10.6) 72(8.75,-10.6) 109(8.75,10.6) 110(8.25,10.6) 111(7.75,10.6) 112(7.25,10.6) 113(6.75,10.6) 114(6.25,10.6) 115(5.75,10.6) 116(5.25,10.6) 117(4.75,10.6) 118(4.25,10.6) 119(3.75,10.6) 120(3.25,10.6) 121(2.75,10.6) 122(2.25,10.6) 123(1.75,10.6) 124(1.25,10.6) 125(0.75,10.6) 126(0.25,10.6) 127(-0.25,10.6) 128(-0.75,10.6) 129(-1.25,10.6) 130(-1.75,10.6) 131(-2.25,10.6) 132(-2.75,10.6) 133(-3.25,10.6) 134(-3.75,10.6) 135(-4.25,10.6) 136(-4.75,10.6) 137(-5.25,10.6) 138(-5.75,10.6) 139(-6.25,10.6) 140(-6.75,10.6) 141(-7.25,10.6) 142(-7.75,10.6) 143(-8.25,10.6) 144(-8.75,10.6)
Top Overlay:
  circle w0.6: c-8.15,8.15 r0.3
  circle w0.25: c-10.6,9.45 r0.125
  lines w0.2: -9.15,-9.15 9.15,-9.15 9.15,9.15 -9.15,9.15 -9.15,-9.15
Mechanical 13:
  circle w0.1: c-9.1,9.1 r0.5
  lines w0.1: -10,-10 10,-10 10,10 -10,10 -10,-10
Mechanical 15:
  lines w0.1: -0.5,0 0.5,0 ; 0,-0.5 0,0.5 ; -12.15,-12.15 12.15,-12.15 12.15,12.15 -12.15,12.15 -12.15,-12.15
3D body: height 1.6, standoff 0, extent -10,-10 10,10

## 918-02_N [mm] "144-Pin Thin Quad Flat Pack 0.5 mm Pitch, IPC Medium Density"
height 1.6
pads (144):
  oval 1.8x0.3 smd: 1(-10.55,8.75) 2(-10.55,8.25) 3(-10.55,7.75) 4(-10.55,7.25) 5(-10.55,6.75) 6(-10.55,6.25) 7(-10.55,5.75) 8(-10.55,5.25) 9(-10.55,4.75) 10(-10.55,4.25) 11(-10.55,3.75) 12(-10.55,3.25) 13(-10.55,2.75) 14(-10.55,2.25) 15(-10.55,1.75) 16(-10.55,1.25) 17(-10.55,0.75) 18(-10.55,0.25) 19(-10.55,-0.25) 20(-10.55,-0.75) 21(-10.55,-1.25) 22(-10.55,-1.75) 23(-10.55,-2.25) 24(-10.55,-2.75) 25(-10.55,-3.25) 26(-10.55,-3.75) 27(-10.55,-4.25) 28(-10.55,-4.75) 29(-10.55,-5.25) 30(-10.55,-5.75) 31(-10.55,-6.25) 32(-10.55,-6.75) 33(-10.55,-7.25) 34(-10.55,-7.75) 35(-10.55,-8.25) 36(-10.55,-8.75) 73(10.55,-8.75) 74(10.55,-8.25) 75(10.55,-7.75) 76(10.55,-7.25) 77(10.55,-6.75) 78(10.55,-6.25) 79(10.55,-5.75) 80(10.55,-5.25) 81(10.55,-4.75) 82(10.55,-4.25) 83(10.55,-3.75) 84(10.55,-3.25) 85(10.55,-2.75) 86(10.55,-2.25) 87(10.55,-1.75) 88(10.55,-1.25) 89(10.55,-0.75) 90(10.55,-0.25) 91(10.55,0.25) 92(10.55,0.75) 93(10.55,1.25) 94(10.55,1.75) 95(10.55,2.25) 96(10.55,2.75) 97(10.55,3.25) 98(10.55,3.75) 99(10.55,4.25) 100(10.55,4.75) 101(10.55,5.25) 102(10.55,5.75) 103(10.55,6.25) 104(10.55,6.75) 105(10.55,7.25) 106(10.55,7.75) 107(10.55,8.25) 108(10.55,8.75)
  oval 0.3x1.8 smd: 37(-8.75,-10.55) 38(-8.25,-10.55) 39(-7.75,-10.55) 40(-7.25,-10.55) 41(-6.75,-10.55) 42(-6.25,-10.55) 43(-5.75,-10.55) 44(-5.25,-10.55) 45(-4.75,-10.55) 46(-4.25,-10.55) 47(-3.75,-10.55) 48(-3.25,-10.55) 49(-2.75,-10.55) 50(-2.25,-10.55) 51(-1.75,-10.55) 52(-1.25,-10.55) 53(-0.75,-10.55) 54(-0.25,-10.55) 55(0.25,-10.55) 56(0.75,-10.55) 57(1.25,-10.55) 58(1.75,-10.55) 59(2.25,-10.55) 60(2.75,-10.55) 61(3.25,-10.55) 62(3.75,-10.55) 63(4.25,-10.55) 64(4.75,-10.55) 65(5.25,-10.55) 66(5.75,-10.55) 67(6.25,-10.55) 68(6.75,-10.55) 69(7.25,-10.55) 70(7.75,-10.55) 71(8.25,-10.55) 72(8.75,-10.55) 109(8.75,10.55) 110(8.25,10.55) 111(7.75,10.55) 112(7.25,10.55) 113(6.75,10.55) 114(6.25,10.55) 115(5.75,10.55) 116(5.25,10.55) 117(4.75,10.55) 118(4.25,10.55) 119(3.75,10.55) 120(3.25,10.55) 121(2.75,10.55) 122(2.25,10.55) 123(1.75,10.55) 124(1.25,10.55) 125(0.75,10.55) 126(0.25,10.55) 127(-0.25,10.55) 128(-0.75,10.55) 129(-1.25,10.55) 130(-1.75,10.55) 131(-2.25,10.55) 132(-2.75,10.55) 133(-3.25,10.55) 134(-3.75,10.55) 135(-4.25,10.55) 136(-4.75,10.55) 137(-5.25,10.55) 138(-5.75,10.55) 139(-6.25,10.55) 140(-6.75,10.55) 141(-7.25,10.55) 142(-7.75,10.55) 143(-8.25,10.55) 144(-8.75,10.55)
Top Overlay:
  circle w0.25: c-10.55,9.45 r0.125
  circle w0.6: c-8.25,8.25 r0.3
  lines w0.2: -9.25,-9.25 -9.25,9.25 9.25,9.25 9.25,-9.25 -9.25,-9.25
Mechanical 13:
  circle w0.1: c-9.1,9.1 r0.5
  lines w0.1: -10,-10 -10,10 10,10 10,-10 -10,-10
Mechanical 15:
  lines w0.1: -0.5,0 0.5,0 ; 0,-0.5 0,0.5 ; -11.7,-11.7 -11.7,11.7 11.7,11.7 11.7,-11.7 -11.7,-11.7
3D body: height 1.6, standoff 0, extent -10,-10 10,10

## 918-03_L [mm] "144-Pin Thin Quad Flat Pack 0.5 mm Pitch, IPC High Density"
height 1.6
pads (144):
  oval 1.55x0.25 smd: 1(-10.525,8.75) 2(-10.525,8.25) 3(-10.525,7.75) 4(-10.525,7.25) 5(-10.525,6.75) 6(-10.525,6.25) 7(-10.525,5.75) 8(-10.525,5.25) 9(-10.525,4.75) 10(-10.525,4.25) 11(-10.525,3.75) 12(-10.525,3.25) 13(-10.525,2.75) 14(-10.525,2.25) 15(-10.525,1.75) 16(-10.525,1.25) 17(-10.525,0.75) 18(-10.525,0.25) 19(-10.525,-0.25) 20(-10.525,-0.75) 21(-10.525,-1.25) 22(-10.525,-1.75) 23(-10.525,-2.25) 24(-10.525,-2.75) 25(-10.525,-3.25) 26(-10.525,-3.75) 27(-10.525,-4.25) 28(-10.525,-4.75) 29(-10.525,-5.25) 30(-10.525,-5.75) 31(-10.525,-6.25) 32(-10.525,-6.75) 33(-10.525,-7.25) 34(-10.525,-7.75) 35(-10.525,-8.25) 36(-10.525,-8.75) 73(10.525,-8.75) 74(10.525,-8.25) 75(10.525,-7.75) 76(10.525,-7.25) 77(10.525,-6.75) 78(10.525,-6.25) 79(10.525,-5.75) 80(10.525,-5.25) 81(10.525,-4.75) 82(10.525,-4.25) 83(10.525,-3.75) 84(10.525,-3.25) 85(10.525,-2.75) 86(10.525,-2.25) 87(10.525,-1.75) 88(10.525,-1.25) 89(10.525,-0.75) 90(10.525,-0.25) 91(10.525,0.25) 92(10.525,0.75) 93(10.525,1.25) 94(10.525,1.75) 95(10.525,2.25) 96(10.525,2.75) 97(10.525,3.25) 98(10.525,3.75) 99(10.525,4.25) 100(10.525,4.75) 101(10.525,5.25) 102(10.525,5.75) 103(10.525,6.25) 104(10.525,6.75) 105(10.525,7.25) 106(10.525,7.75) 107(10.525,8.25) 108(10.525,8.75)
  oval 0.25x1.55 smd: 37(-8.75,-10.525) 38(-8.25,-10.525) 39(-7.75,-10.525) 40(-7.25,-10.525) 41(-6.75,-10.525) 42(-6.25,-10.525) 43(-5.75,-10.525) 44(-5.25,-10.525) 45(-4.75,-10.525) 46(-4.25,-10.525) 47(-3.75,-10.525) 48(-3.25,-10.525) 49(-2.75,-10.525) 50(-2.25,-10.525) 51(-1.75,-10.525) 52(-1.25,-10.525) 53(-0.75,-10.525) 54(-0.25,-10.525) 55(0.25,-10.525) 56(0.75,-10.525) 57(1.25,-10.525) 58(1.75,-10.525) 59(2.25,-10.525) 60(2.75,-10.525) 61(3.25,-10.525) 62(3.75,-10.525) 63(4.25,-10.525) 64(4.75,-10.525) 65(5.25,-10.525) 66(5.75,-10.525) 67(6.25,-10.525) 68(6.75,-10.525) 69(7.25,-10.525) 70(7.75,-10.525) 71(8.25,-10.525) 72(8.75,-10.525) 109(8.75,10.525) 110(8.25,10.525) 111(7.75,10.525) 112(7.25,10.525) 113(6.75,10.525) 114(6.25,10.525) 115(5.75,10.525) 116(5.25,10.525) 117(4.75,10.525) 118(4.25,10.525) 119(3.75,10.525) 120(3.25,10.525) 121(2.75,10.525) 122(2.25,10.525) 123(1.75,10.525) 124(1.25,10.525) 125(0.75,10.525) 126(0.25,10.525) 127(-0.25,10.525) 128(-0.75,10.525) 129(-1.25,10.525) 130(-1.75,10.525) 131(-2.25,10.525) 132(-2.75,10.525) 133(-3.25,10.525) 134(-3.75,10.525) 135(-4.25,10.525) 136(-4.75,10.525) 137(-5.25,10.525) 138(-5.75,10.525) 139(-6.25,10.525) 140(-6.75,10.525) 141(-7.25,10.525) 142(-7.75,10.525) 143(-8.25,10.525) 144(-8.75,10.525)
Top Overlay:
  circle w0.6: c-8.35,8.35 r0.3
  circle w0.25: c-10.525,9.425 r0.125
  lines w0.2: -9.35,-9.35 9.35,-9.35 9.35,9.35 -9.35,9.35 -9.35,-9.35
Mechanical 13:
  circle w0.1: c-9.1,9.1 r0.5
  lines w0.1: -10,-10 10,-10 10,10 -10,10 -10,-10
Mechanical 15:
  lines w0.1: -0.5,0 0.5,0 ; 0,-0.5 0,0.5 ; -11.4,-11.4 11.4,-11.4 11.4,11.4 -11.4,11.4 -11.4,-11.4
3D body: height 1.6, standoff 0, extent -10,-10 10,10

## 918-03_M [mm] "144-Pin Thin Quad Flat Pack 0.5 mm Pitch, IPC Low Density"
height 1.6
pads (144):
  oval 2.1x0.3 smd: 1(-10.6,8.75) 2(-10.6,8.25) 3(-10.6,7.75) 4(-10.6,7.25) 5(-10.6,6.75) 6(-10.6,6.25) 7(-10.6,5.75) 8(-10.6,5.25) 9(-10.6,4.75) 10(-10.6,4.25) 11(-10.6,3.75) 12(-10.6,3.25) 13(-10.6,2.75) 14(-10.6,2.25) 15(-10.6,1.75) 16(-10.6,1.25) 17(-10.6,0.75) 18(-10.6,0.25) 19(-10.6,-0.25) 20(-10.6,-0.75) 21(-10.6,-1.25) 22(-10.6,-1.75) 23(-10.6,-2.25) 24(-10.6,-2.75) 25(-10.6,-3.25) 26(-10.6,-3.75) 27(-10.6,-4.25) 28(-10.6,-4.75) 29(-10.6,-5.25) 30(-10.6,-5.75) 31(-10.6,-6.25) 32(-10.6,-6.75) 33(-10.6,-7.25) 34(-10.6,-7.75) 35(-10.6,-8.25) 36(-10.6,-8.75) 73(10.6,-8.75) 74(10.6,-8.25) 75(10.6,-7.75) 76(10.6,-7.25) 77(10.6,-6.75) 78(10.6,-6.25) 79(10.6,-5.75) 80(10.6,-5.25) 81(10.6,-4.75) 82(10.6,-4.25) 83(10.6,-3.75) 84(10.6,-3.25) 85(10.6,-2.75) 86(10.6,-2.25) 87(10.6,-1.75) 88(10.6,-1.25) 89(10.6,-0.75) 90(10.6,-0.25) 91(10.6,0.25) 92(10.6,0.75) 93(10.6,1.25) 94(10.6,1.75) 95(10.6,2.25) 96(10.6,2.75) 97(10.6,3.25) 98(10.6,3.75) 99(10.6,4.25) 100(10.6,4.75) 101(10.6,5.25) 102(10.6,5.75) 103(10.6,6.25) 104(10.6,6.75) 105(10.6,7.25) 106(10.6,7.75) 107(10.6,8.25) 108(10.6,8.75)
  oval 0.3x2.1 smd: 37(-8.75,-10.6) 38(-8.25,-10.6) 39(-7.75,-10.6) 40(-7.25,-10.6) 41(-6.75,-10.6) 42(-6.25,-10.6) 43(-5.75,-10.6) 44(-5.25,-10.6) 45(-4.75,-10.6) 46(-4.25,-10.6) 47(-3.75,-10.6) 48(-3.25,-10.6) 49(-2.75,-10.6) 50(-2.25,-10.6) 51(-1.75,-10.6) 52(-1.25,-10.6) 53(-0.75,-10.6) 54(-0.25,-10.6) 55(0.25,-10.6) 56(0.75,-10.6) 57(1.25,-10.6) 58(1.75,-10.6) 59(2.25,-10.6) 60(2.75,-10.6) 61(3.25,-10.6) 62(3.75,-10.6) 63(4.25,-10.6) 64(4.75,-10.6) 65(5.25,-10.6) 66(5.75,-10.6) 67(6.25,-10.6) 68(6.75,-10.6) 69(7.25,-10.6) 70(7.75,-10.6) 71(8.25,-10.6) 72(8.75,-10.6) 109(8.75,10.6) 110(8.25,10.6) 111(7.75,10.6) 112(7.25,10.6) 113(6.75,10.6) 114(6.25,10.6) 115(5.75,10.6) 116(5.25,10.6) 117(4.75,10.6) 118(4.25,10.6) 119(3.75,10.6) 120(3.25,10.6) 121(2.75,10.6) 122(2.25,10.6) 123(1.75,10.6) 124(1.25,10.6) 125(0.75,10.6) 126(0.25,10.6) 127(-0.25,10.6) 128(-0.75,10.6) 129(-1.25,10.6) 130(-1.75,10.6) 131(-2.25,10.6) 132(-2.75,10.6) 133(-3.25,10.6) 134(-3.75,10.6) 135(-4.25,10.6) 136(-4.75,10.6) 137(-5.25,10.6) 138(-5.75,10.6) 139(-6.25,10.6) 140(-6.75,10.6) 141(-7.25,10.6) 142(-7.75,10.6) 143(-8.25,10.6) 144(-8.75,10.6)
Top Overlay:
  circle w0.6: c-8.15,8.15 r0.3
  circle w0.25: c-10.6,9.45 r0.125
  lines w0.2: -9.15,-9.15 9.15,-9.15 9.15,9.15 -9.15,9.15 -9.15,-9.15
Mechanical 13:
  circle w0.1: c-9.1,9.1 r0.5
  lines w0.1: -10,-10 10,-10 10,10 -10,10 -10,-10
Mechanical 15:
  lines w0.1: -0.5,0 0.5,0 ; 0,-0.5 0,0.5 ; -12.15,-12.15 12.15,-12.15 12.15,12.15 -12.15,12.15 -12.15,-12.15
3D body: height 1.6, standoff 0, extent -10,-10 10,10

## 918-03_N [mm] "144-Pin Thin Quad Flat Pack 0.5 mm Pitch, IPC Medium Density"
height 1.6
pads (144):
  oval 1.8x0.3 smd: 1(-10.55,8.75) 2(-10.55,8.25) 3(-10.55,7.75) 4(-10.55,7.25) 5(-10.55,6.75) 6(-10.55,6.25) 7(-10.55,5.75) 8(-10.55,5.25) 9(-10.55,4.75) 10(-10.55,4.25) 11(-10.55,3.75) 12(-10.55,3.25) 13(-10.55,2.75) 14(-10.55,2.25) 15(-10.55,1.75) 16(-10.55,1.25) 17(-10.55,0.75) 18(-10.55,0.25) 19(-10.55,-0.25) 20(-10.55,-0.75) 21(-10.55,-1.25) 22(-10.55,-1.75) 23(-10.55,-2.25) 24(-10.55,-2.75) 25(-10.55,-3.25) 26(-10.55,-3.75) 27(-10.55,-4.25) 28(-10.55,-4.75) 29(-10.55,-5.25) 30(-10.55,-5.75) 31(-10.55,-6.25) 32(-10.55,-6.75) 33(-10.55,-7.25) 34(-10.55,-7.75) 35(-10.55,-8.25) 36(-10.55,-8.75) 73(10.55,-8.75) 74(10.55,-8.25) 75(10.55,-7.75) 76(10.55,-7.25) 77(10.55,-6.75) 78(10.55,-6.25) 79(10.55,-5.75) 80(10.55,-5.25) 81(10.55,-4.75) 82(10.55,-4.25) 83(10.55,-3.75) 84(10.55,-3.25) 85(10.55,-2.75) 86(10.55,-2.25) 87(10.55,-1.75) 88(10.55,-1.25) 89(10.55,-0.75) 90(10.55,-0.25) 91(10.55,0.25) 92(10.55,0.75) 93(10.55,1.25) 94(10.55,1.75) 95(10.55,2.25) 96(10.55,2.75) 97(10.55,3.25) 98(10.55,3.75) 99(10.55,4.25) 100(10.55,4.75) 101(10.55,5.25) 102(10.55,5.75) 103(10.55,6.25) 104(10.55,6.75) 105(10.55,7.25) 106(10.55,7.75) 107(10.55,8.25) 108(10.55,8.75)
  oval 0.3x1.8 smd: 37(-8.75,-10.55) 38(-8.25,-10.55) 39(-7.75,-10.55) 40(-7.25,-10.55) 41(-6.75,-10.55) 42(-6.25,-10.55) 43(-5.75,-10.55) 44(-5.25,-10.55) 45(-4.75,-10.55) 46(-4.25,-10.55) 47(-3.75,-10.55) 48(-3.25,-10.55) 49(-2.75,-10.55) 50(-2.25,-10.55) 51(-1.75,-10.55) 52(-1.25,-10.55) 53(-0.75,-10.55) 54(-0.25,-10.55) 55(0.25,-10.55) 56(0.75,-10.55) 57(1.25,-10.55) 58(1.75,-10.55) 59(2.25,-10.55) 60(2.75,-10.55) 61(3.25,-10.55) 62(3.75,-10.55) 63(4.25,-10.55) 64(4.75,-10.55) 65(5.25,-10.55) 66(5.75,-10.55) 67(6.25,-10.55) 68(6.75,-10.55) 69(7.25,-10.55) 70(7.75,-10.55) 71(8.25,-10.55) 72(8.75,-10.55) 109(8.75,10.55) 110(8.25,10.55) 111(7.75,10.55) 112(7.25,10.55) 113(6.75,10.55) 114(6.25,10.55) 115(5.75,10.55) 116(5.25,10.55) 117(4.75,10.55) 118(4.25,10.55) 119(3.75,10.55) 120(3.25,10.55) 121(2.75,10.55) 122(2.25,10.55) 123(1.75,10.55) 124(1.25,10.55) 125(0.75,10.55) 126(0.25,10.55) 127(-0.25,10.55) 128(-0.75,10.55) 129(-1.25,10.55) 130(-1.75,10.55) 131(-2.25,10.55) 132(-2.75,10.55) 133(-3.25,10.55) 134(-3.75,10.55) 135(-4.25,10.55) 136(-4.75,10.55) 137(-5.25,10.55) 138(-5.75,10.55) 139(-6.25,10.55) 140(-6.75,10.55) 141(-7.25,10.55) 142(-7.75,10.55) 143(-8.25,10.55) 144(-8.75,10.55)
Top Overlay:
  circle w0.25: c-10.55,9.45 r0.125
  circle w0.6: c-8.25,8.25 r0.3
  lines w0.2: -9.25,-9.25 -9.25,9.25 9.25,9.25 9.25,-9.25 -9.25,-9.25
Mechanical 13:
  circle w0.1: c-9.1,9.1 r0.5
  lines w0.1: -10,-10 -10,10 10,10 10,-10 -10,-10
Mechanical 15:
  lines w0.1: -0.5,0 0.5,0 ; 0,-0.5 0,0.5 ; -11.7,-11.7 -11.7,11.7 11.7,11.7 11.7,-11.7 -11.7,-11.7
3D body: height 1.6, standoff 0, extent -10,-10 10,10

## 918_L [mm] "144-Pin Thin Quad Flat Pack 0.5 mm Pitch, IPC High Density"
height 1.6
pads (144):
  oval 1.55x0.25 smd: 1(-10.525,8.75) 2(-10.525,8.25) 3(-10.525,7.75) 4(-10.525,7.25) 5(-10.525,6.75) 6(-10.525,6.25) 7(-10.525,5.75) 8(-10.525,5.25) 9(-10.525,4.75) 10(-10.525,4.25) 11(-10.525,3.75) 12(-10.525,3.25) 13(-10.525,2.75) 14(-10.525,2.25) 15(-10.525,1.75) 16(-10.525,1.25) 17(-10.525,0.75) 18(-10.525,0.25) 19(-10.525,-0.25) 20(-10.525,-0.75) 21(-10.525,-1.25) 22(-10.525,-1.75) 23(-10.525,-2.25) 24(-10.525,-2.75) 25(-10.525,-3.25) 26(-10.525,-3.75) 27(-10.525,-4.25) 28(-10.525,-4.75) 29(-10.525,-5.25) 30(-10.525,-5.75) 31(-10.525,-6.25) 32(-10.525,-6.75) 33(-10.525,-7.25) 34(-10.525,-7.75) 35(-10.525,-8.25) 36(-10.525,-8.75) 73(10.525,-8.75) 74(10.525,-8.25) 75(10.525,-7.75) 76(10.525,-7.25) 77(10.525,-6.75) 78(10.525,-6.25) 79(10.525,-5.75) 80(10.525,-5.25) 81(10.525,-4.75) 82(10.525,-4.25) 83(10.525,-3.75) 84(10.525,-3.25) 85(10.525,-2.75) 86(10.525,-2.25) 87(10.525,-1.75) 88(10.525,-1.25) 89(10.525,-0.75) 90(10.525,-0.25) 91(10.525,0.25) 92(10.525,0.75) 93(10.525,1.25) 94(10.525,1.75) 95(10.525,2.25) 96(10.525,2.75) 97(10.525,3.25) 98(10.525,3.75) 99(10.525,4.25) 100(10.525,4.75) 101(10.525,5.25) 102(10.525,5.75) 103(10.525,6.25) 104(10.525,6.75) 105(10.525,7.25) 106(10.525,7.75) 107(10.525,8.25) 108(10.525,8.75)
  oval 0.25x1.55 smd: 37(-8.75,-10.525) 38(-8.25,-10.525) 39(-7.75,-10.525) 40(-7.25,-10.525) 41(-6.75,-10.525) 42(-6.25,-10.525) 43(-5.75,-10.525) 44(-5.25,-10.525) 45(-4.75,-10.525) 46(-4.25,-10.525) 47(-3.75,-10.525) 48(-3.25,-10.525) 49(-2.75,-10.525) 50(-2.25,-10.525) 51(-1.75,-10.525) 52(-1.25,-10.525) 53(-0.75,-10.525) 54(-0.25,-10.525) 55(0.25,-10.525) 56(0.75,-10.525) 57(1.25,-10.525) 58(1.75,-10.525) 59(2.25,-10.525) 60(2.75,-10.525) 61(3.25,-10.525) 62(3.75,-10.525) 63(4.25,-10.525) 64(4.75,-10.525) 65(5.25,-10.525) 66(5.75,-10.525) 67(6.25,-10.525) 68(6.75,-10.525) 69(7.25,-10.525) 70(7.75,-10.525) 71(8.25,-10.525) 72(8.75,-10.525) 109(8.75,10.525) 110(8.25,10.525) 111(7.75,10.525) 112(7.25,10.525) 113(6.75,10.525) 114(6.25,10.525) 115(5.75,10.525) 116(5.25,10.525) 117(4.75,10.525) 118(4.25,10.525) 119(3.75,10.525) 120(3.25,10.525) 121(2.75,10.525) 122(2.25,10.525) 123(1.75,10.525) 124(1.25,10.525) 125(0.75,10.525) 126(0.25,10.525) 127(-0.25,10.525) 128(-0.75,10.525) 129(-1.25,10.525) 130(-1.75,10.525) 131(-2.25,10.525) 132(-2.75,10.525) 133(-3.25,10.525) 134(-3.75,10.525) 135(-4.25,10.525) 136(-4.75,10.525) 137(-5.25,10.525) 138(-5.75,10.525) 139(-6.25,10.525) 140(-6.75,10.525) 141(-7.25,10.525) 142(-7.75,10.525) 143(-8.25,10.525) 144(-8.75,10.525)
Top Overlay:
  circle w0.6: c-8.35,8.35 r0.3
  circle w0.25: c-10.525,9.425 r0.125
  lines w0.2: -9.35,-9.35 9.35,-9.35 9.35,9.35 -9.35,9.35 -9.35,-9.35
Mechanical 13:
  circle w0.1: c-9.1,9.1 r0.5
  lines w0.1: -10,-10 10,-10 10,10 -10,10 -10,-10
Mechanical 15:
  lines w0.1: -0.5,0 0.5,0 ; 0,-0.5 0,0.5 ; -11.4,-11.4 11.4,-11.4 11.4,11.4 -11.4,11.4 -11.4,-11.4
3D body: height 1.6, standoff 0, extent -10,-10 10,10